# Altium footprint library node.PcbLib: 75 footprints (part 1 of 5)
Each footprint in its own frame and in the unit in brackets; x right, y up, seen from the top. Pads: shape width x height; smd on the part's side, far side on the other; paste and mask are expansions set on the pad; w line width, h text height; cw(c..) or ccw(c..) is an arc to the next point about the centre after c.
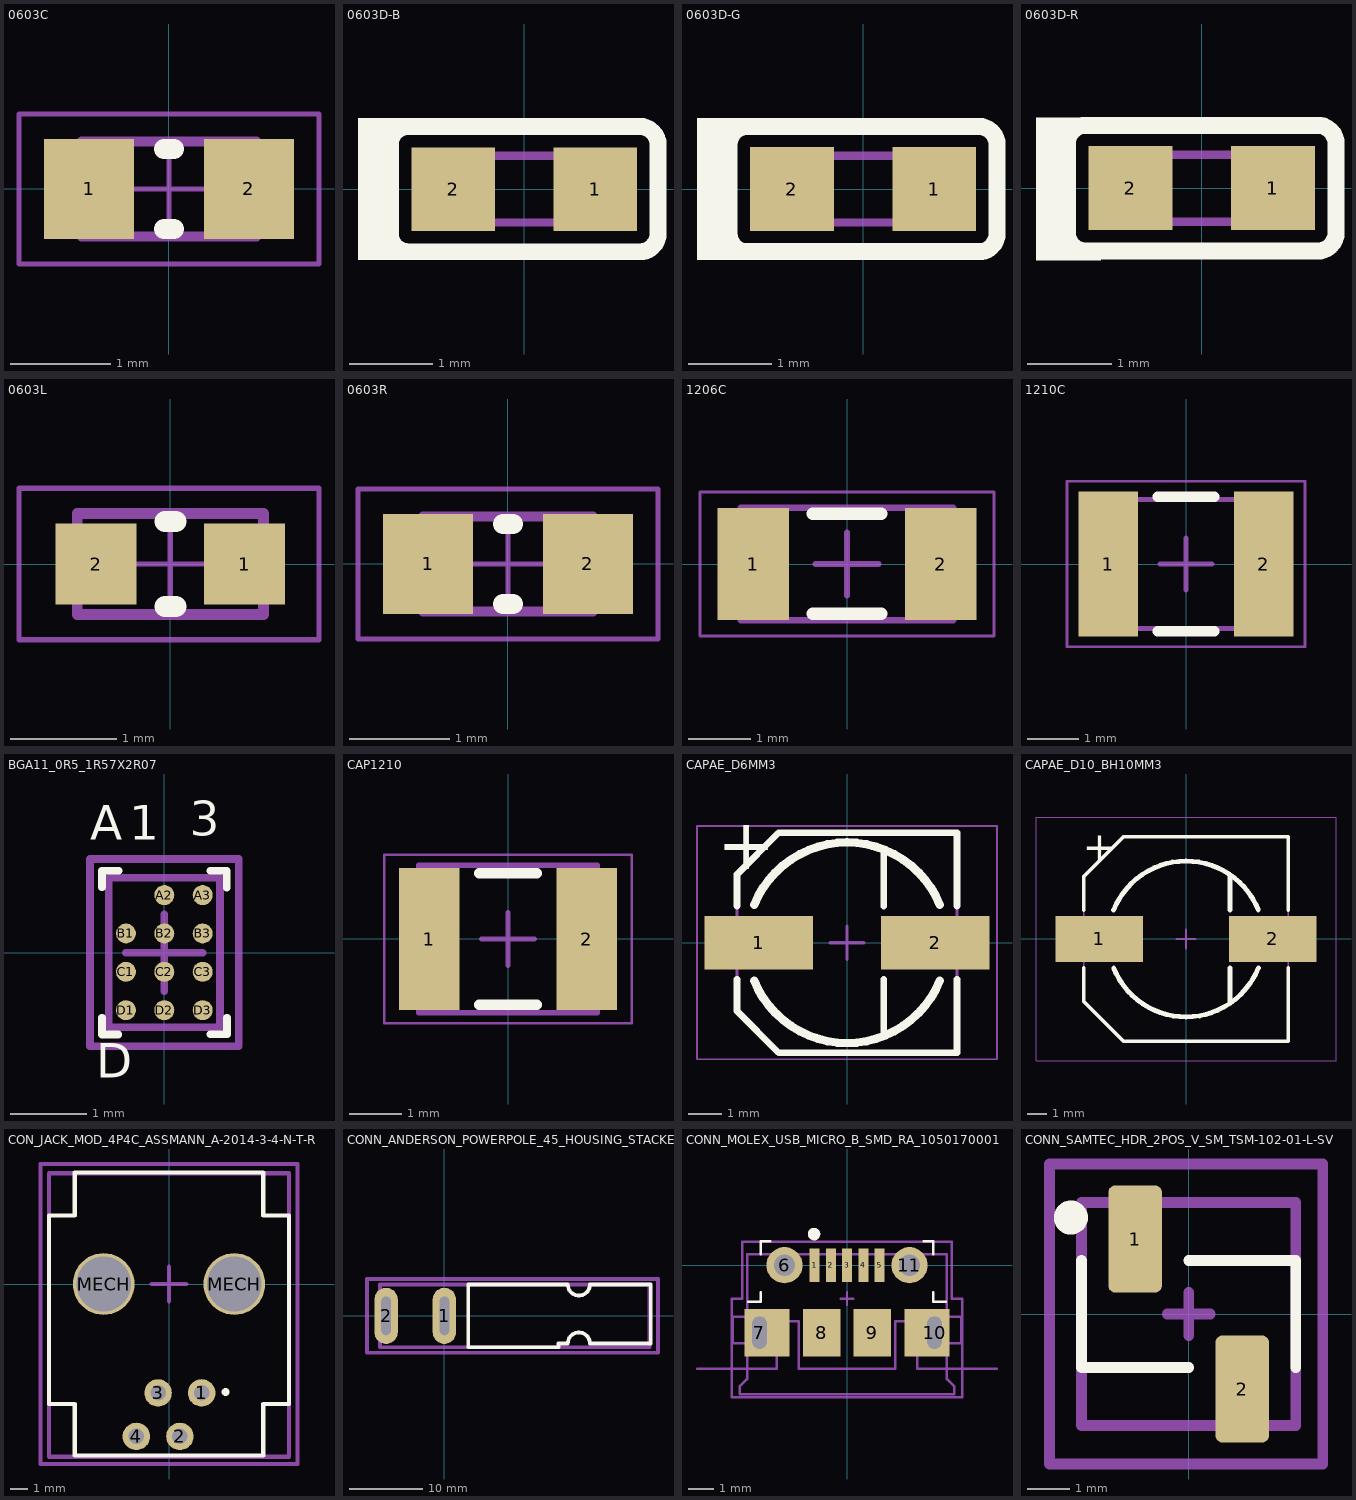
[diagram p0: the footprints below, top view; thin cyan lines are the x and y axes]

## 0603C [mm] "Chip Capacitor, Body 1.6x0.8mm, Height 1.0mm, IPC Medium Density"
height 1
pads (2):
  rect 0.9x1 smd: 1(-0.8,0) 2(0.8,0)
Top Overlay:
  lines w0.2: -0.05,-0.4 0.05,-0.4 ; -0.05,0.4 0.05,0.4
M13 (3D Body):
  lines w0.1: -0.875,-0.475 0.875,-0.475 0.875,0.475 -0.875,0.475 -0.875,-0.475
M15 (Courtyard):
  lines w0.05: -0.475,0 0.475,0 ; 0,-0.475 0,0.475 ; -1.5,-0.75 1.5,-0.75 1.5,0.75 -1.5,0.75 -1.5,-0.75
3D body: height 1, standoff 0, extent 0.525,-0.475 0.875,0.475
3D body: height 1, standoff 0, extent -0.875,-0.475 -0.525,0.475
3D body: height 1, standoff 0, extent -0.525,-0.475 0.525,0.475

## 0603D-B [mm] "LED, SMT, Body 1.6 x 0.8 mm, 0.25mm Thickness"
height 0.25
pads (2):
  rect 1x1 smd paste+0 mask+0: 1(0.85,0) 2(-0.85,0)
Top Overlay:
  rectangle: -1.797,0.667 -1.147,0.852
  rectangle: -1.988,-0.849 -1.531,0.852
  rectangle: -1.797,-0.849 -1.213,-0.684
  lines w0.203: -1.602,-0.533 ccw(c-1.386,-0.533) -1.386,-0.749 1.386,-0.749 ccw(c1.386,-0.533) 1.602,-0.533 1.602,0.533 ccw(c1.386,0.533) 1.386,0.749 -1.386,0.749 ccw(c-1.386,0.533) -1.602,0.533 -1.602,-0.533
Mechanical 7:
  lines w0.1: -0.8,-0.4 -0.8,0.4 0.8,0.4 0.8,-0.4 -0.8,-0.4
3D body: height 0.1, standoff 0, extent -0.8,-0.4 0.8,0.4
3D body: height 0.2, standoff 0.15, extent -0.254,-0.254 0.254,0.254
3D body: height 0.25, standoff 0.1, extent -0.6,-0.4 0.6,0.4

## 0603D-G [mm] "LED, SMT, Body 1.6 x 0.8 mm, 0.25mm Thickness"
height 0.25
pads (2):
  rect 1x1 smd paste+0 mask+0: 1(0.85,0) 2(-0.85,0)
Top Overlay:
  rectangle: -1.794,0.666 -1.144,0.852
  rectangle: -1.985,-0.85 -1.528,0.852
  rectangle: -1.794,-0.85 -1.21,-0.685
  lines w0.203: -1.602,-0.533 ccw(c-1.386,-0.533) -1.386,-0.749 1.386,-0.749 ccw(c1.386,-0.533) 1.602,-0.533 1.602,0.533 ccw(c1.386,0.533) 1.386,0.749 -1.386,0.749 ccw(c-1.386,0.533) -1.602,0.533 -1.602,-0.533
Mechanical 7:
  lines w0.1: -0.8,-0.4 -0.8,0.4 0.8,0.4 0.8,-0.4 -0.8,-0.4
3D body: height 0.1, standoff 0, extent -0.8,-0.4 0.8,0.4
3D body: height 0.2, standoff 0.15, extent -0.254,-0.254 0.254,0.254
3D body: height 0.25, standoff 0.1, extent -0.6,-0.4 0.6,0.4

## 0603D-R [mm] "LED, SMT, Body 1.6 x 0.8 mm, 0.25mm Thickness"
height 0.25
pads (2):
  rect 1x1 smd paste+0 mask+0: 1(0.85,0) 2(-0.85,0)
Top Overlay:
  rectangle: -1.785,-0.861 -1.2,-0.696
  rectangle: -1.975,-0.861 -1.518,0.841
  rectangle: -1.785,0.656 -1.134,0.841
  lines w0.203: -1.602,-0.533 ccw(c-1.386,-0.533) -1.386,-0.749 1.386,-0.749 ccw(c1.386,-0.533) 1.602,-0.533 1.602,0.533 ccw(c1.386,0.533) 1.386,0.749 -1.386,0.749 ccw(c-1.386,0.533) -1.602,0.533 -1.602,-0.533
Mechanical 7:
  lines w0.1: -0.8,-0.4 0.8,-0.4 0.8,0.4 -0.8,0.4 -0.8,-0.4
3D body: height 0.25, standoff 0.1, extent -0.6,-0.4 0.6,0.4
3D body: height 0.2, standoff 0.15, extent -0.254,-0.254 0.254,0.254
3D body: height 0.1, standoff 0, extent -0.8,-0.4 0.8,0.4

## 0603L [mil] "Bead 0603L"
height 39.37
pads (2):
  rect 30x30 smd: 1(27.5,0) 2(-27.5,0)
Top Overlay:
  lines w7.87: -1.97,-15.74 1.97,-15.74 -1.97,-15.75 ; -1.97,15.75 1.97,15.75 -1.97,15.75
M13 (3D Body):
  lines w3.94: -34.45,-18.7 -34.45,18.7 34.45,18.7 34.45,-18.7 -34.45,-18.7
M15 (Courtyard):
  lines w1.97: -18.7,0 18.7,0 ; 0,-18.7 0,18.7 ; -56,-28 55,-28 55,28 -56,28 -56,-28
3D body: height 23.62, standoff 0, extent -20.67,-18.7 20.67,18.7
3D body: height 23.62, standoff 0, extent -34.45,-18.7 -20.67,18.7
3D body: height 23.62, standoff 0, extent 20.67,-18.7 34.45,18.7

## 0603R [mm] "Chip Resistor, Body 1.6x0.8mm, IPC Medium Density"
height 0.6
pads (2):
  rect 0.9x1 smd: 1(-0.8,0) 2(0.8,0)
Top Overlay:
  lines w0.2: -0.05,-0.4 0.05,-0.4 ; -0.05,0.4 0.05,0.4
M13 (3D Body):
  lines w0.1: -0.85,-0.475 0.85,-0.475 0.85,0.475 -0.85,0.475 -0.85,-0.475
M15 (Courtyard):
  lines w0.05: -0.475,0 0.475,0 ; 0,-0.475 0,0.475 ; -1.5,-0.75 1.5,-0.75 1.5,0.75 -1.5,0.75 -1.5,-0.75
3D body: height 0.6, standoff 0, extent -0.849,-0.474 -0.58,0.475
3D body: height 0.6, standoff 0, extent -0.58,-0.474 0.581,0.475
3D body: height 0.6, standoff 0, extent 0.581,-0.474 0.85,0.475

## 1206C [mm] "Chip Capacitor, Body 3.2x1.6mm, Height 1mm, IPC Medium Density"
height 1
pads (2):
  rect 1.15x1.8 smd: 1(-1.5,0) 2(1.5,0)
Top Overlay:
  lines w0.2: -0.55,-0.8 0.55,-0.8 ; -0.55,0.8 0.55,0.8
M13 (3D Body):
  lines w0.1: -1.7,-0.9 1.7,-0.9 1.7,0.9 -1.7,0.9 -1.7,-0.9
M15 (Courtyard):
  lines w0.05: -2.35,-1.15 2.35,-1.15 2.35,1.15 -2.35,1.15 -2.35,-1.15
  lines w0.1: -0.5,0 0.5,0 ; 0,-0.5 0,0.5
3D body: height 1, standoff 0, extent 1.2,-0.9 1.7,0.9
3D body: height 1, standoff 0, extent -1.7,-0.9 -1.2,0.9
3D body: height 1, standoff 0, extent -1.2,-0.9 1.2,0.9

## 1210C [mm] "Chip Capacitor, Body 3.2x1.6mm, Height 1mm, IPC Medium Density"
height 1
pads (2):
  rect 1.15x2.8 smd: 1(-1.5,0) 2(1.5,0)
Top Overlay:
  lines w0.2: -0.55,-1.3 0.55,-1.3 ; -0.55,1.3 0.55,1.3
M13 (3D Body):
  lines w0.1: -1.7,-1.25 1.7,-1.25 1.7,1.25 -1.7,1.25 -1.7,-1.25
M15 (Courtyard):
  lines w0.05: -2.3,-1.6 2.3,-1.6 2.3,1.6 -2.3,1.6 -2.3,-1.6
  lines w0.1: -0.5,0 0.5,0 ; 0,-0.5 0,0.5
3D body: height 1, standoff 0, extent 1.2,-1.25 1.7,1.25
3D body: height 1, standoff 0, extent -1.7,-1.25 -1.2,1.25
3D body: height 1, standoff 0, extent -1.2,-1.25 1.2,1.25

## BGA11_0R5_1R57X2R07 [mm] "2-line IPAD, EMI filter including ESD protection"
height 0.65
pads (11):
  round 0.26 smd: A2(0,0.75) A3(0.5,0.75) B1(-0.5,0.25) B2(0,0.25) B3(0.5,0.25) C1(-0.5,-0.25) C2(0,-0.25) C3(0.5,-0.25) D1(-0.5,-0.75) D2(0,-0.75) D3(0.5,-0.75)
Top Overlay:
  lines w0.1: -0.813,-0.85 -0.813,-1.067 -0.6,-1.067 ; -0.813,0.854 -0.813,1.067 -0.596,1.067 ; 0.6,-1.063 0.817,-1.063 0.817,-0.85 ; 0.6,1.067 0.813,1.067 0.813,0.85
  text "3" at 0.33,1.372 h0.76
  text "1" at -0.459,1.321 h0.76
  text "D" at -0.889,-1.778 h0.76
  text "A" at -0.965,1.321 h0.76
M13 (3D Body):
  lines w0.1: -0.725,-0.975 0.725,-0.975 0.725,0.975 -0.725,0.975 -0.725,-0.975
M15 (Courtyard):
  lines w0.1: -0.5,0 0.5,0 ; 0,-0.5 0,0.5 ; -0.97,-1.22 0.97,-1.22 0.97,1.22 -0.97,1.22 -0.97,-1.22
3D body: height 0.65, standoff 0.12, extent -0.725,-0.975 0.725,0.975

## CAP1210 [mm]
pads (2):
  rect 1.15x2.7 smd: 1(-1.501,-0.001) 2(1.499,-0.001)
Top Overlay:
  lines w0.2: -0.551,-1.251 0.549,-1.251 ; -0.551,1.249 0.549,1.249
M13 (3D Body):
  lines w0.1: -1.701,-1.401 1.699,-1.401 1.699,1.399 -1.701,1.399 -1.701,-1.401
M15 (Courtyard):
  lines w0.05: -2.351,-1.601 2.349,-1.601 2.349,1.599 -2.351,1.599 -2.351,-1.601
  lines w0.1: -0.501,-0.001 0.499,-0.001 ; -0.001,-0.501 -0.001,0.499
3D body: height 1.8, standoff 0, extent 1.199,-1.401 1.699,1.399
3D body: height 1.8, standoff 0, extent -1.701,-1.401 -1.201,1.399
3D body: height 1.8, standoff 0, extent -1.201,-1.401 1.199,1.399

## CAPAE_D6MM3 [mm] "Aluminum Electrolytic Capacitor, Body 6.50x6.50x7.70mm, IPC Medium Density"
height 7.7
pads (2):
  rect 3.25x1.6 smd: 1(-2.65,0) 2(2.65,0)
Top Overlay:
  lines w0.2: -3.3,-1.1 -3.3,-2.05 -2.05,-3.3 3.3,-3.3 3.3,-1.1 ; -3.3,1.1 -3.3,2.05 -2.05,3.3 3.3,3.3 3.3,1.1 ; 1.1,-2.8 1.1,-1.1 ; 1.1,1.1 1.1,2.8
  lines w0.254: -2.786,-1.135 ccw(c0,0) 2.786,-1.135 ; -2.786,1.135 cw(c0,0) 2.786,1.135
  text "+" at -3.9,2.2 h1.52
M13 (3D Body):
  lines w0.1: -3.3,-2.05 -3.3,2.05 -2.05,3.3 3.3,3.3 3.3,-3.3 -2.05,-3.3 -3.3,-2.05
M15 (Courtyard):
  lines w0.05: -4.5,-3.5 4.5,-3.5 4.5,3.5 -4.5,3.5 -4.5,-3.5
  lines w0.1: -0.5,0 0.5,0 ; 0,-0.5 0,0.5
3D body: height 7.7, standoff 0, extent -3.25,-3.25 3.25,3.243
3D body: height 2.57, standoff 0, extent -3.3,-3.3 3.3,3.3

## CAPAE_D10_BH10MM3 [mm] "Aluminum Electrolytic Capacitor, Body 10.30x10.30x10.30mm, IPC Low Density"
height 10.3
pads (2):
  rect 4.5x2.35 smd: 1(-4.45,0) 2(4.45,0)
Top Overlay:
  lines w0.2: -5.25,-1.475 -5.25,-3.213 -3.213,-5.25 5.25,-5.25 5.25,-1.475 ; -5.25,1.475 -5.25,3.212 -3.213,5.25 5.25,5.25 5.25,1.475
  lines w0.254: -3.714,1.486 cw(c0,0) 3.709,1.498 ; -3.709,-1.498 ccw(c0,0) 3.714,-1.486 ; 2.25,-3.25 2.25,-1.475 ; 2.25,1.5 2.25,3.212
  text "+" at -5.3,4 h1.52
M13 (3D Body):
  lines w0.1: -5.25,-3.213 -3.213,-5.25 5.25,-5.25 5.25,5.25 -3.213,5.25 -5.25,3.212 -5.25,-3.213
M15 (Courtyard):
  lines w0.05: -7.7,-6.25 -7.7,6.25 7.7,6.25 7.7,-6.25 -7.7,-6.25
  lines w0.1: -0.5,0 0.5,0 ; 0,-0.5 0,0.5
3D body: height 3.44, standoff 0, extent -5.25,-5.25 5.25,5.25
3D body: height 10.3, standoff 0, extent -5,-5 5,5

## CON_JACK_MOD_4P4C_ASSMANN_A-2014-3-4-N-T-R [mm]
pads (6):
  round 1.6 hole 0.9: 1(1.905,-6.35) 2(0.635,-8.89) 3(-0.635,-6.35) 4(-1.905,-8.89)
  round 3.6 hole 3.2: MECH(-3.81,0) MECH(3.81,0)
Top Overlay:
  circle w0.254: c3.3,-6.3 r0.1
  lines w0.254: -7,-7 -7,4 -5.5,4 -5.5,6.5 5.5,6.5 5.5,4 7,4 7,-7 5.5,-7 5.5,-10 -5.5,-10 -5.5,-7 -7,-7
M13 (3D Body):
  lines w0.254: -7,-10.07 7,-10.07 7,6.47 -7,6.47 -7,-10.07
M15 (Courtyard):
  lines w0.254: -1,0 1,0 ; 0,-1 0,1 ; -7.5,-10.5 7.5,-10.5 7.5,7 -7.5,7 -7.5,-10.5
3D body "modular_jack_a-20140.stp": height 16.45, standoff -3.35, extent -7,-10.07 7,6.47

## CONN_ANDERSON_POWERPOLE_45_HOUSING_STACKED_RATH [mil]
pads (2):
  oval 125x300 hole 50 slot 206 at 90 deg: 1(0,0) 2(-312,0)
Top Overlay:
  lines w20: 127.95,-167.32 610.24,-167.32 610.24,-147.64 659.45,-147.64 cw(c718.5,-147.64) 777.56,-147.64 1102.36,-147.64 1102.36,167.32 777.56,167.32 cw(c718.5,167.32) 659.45,167.32 127.95,167.32 127.95,-147.64 127.95,-167.32
M13 (3D Body):
  lines w20: -344.49,-167.32 1096.46,-167.32 1096.46,167.32 -344.49,167.32 -344.49,-167.32
M15 (Courtyard):
  lines w20: -39.37,0 39.37,0 ; 0,-39.37 0,39.37 ; -413.39,-196.85 1141.73,-196.85 1141.73,196.85 -413.39,196.85 -413.39,-196.85
3D body "powerpole-stacked-redblack.STEP": height 679.13, standoff 29.53, extent 127.95,-167.32 1096.46,167.32

## CONN_MOLEX_USB_MICRO_B_SMD_RA_1050170001 [mm] "USB Micro-B Connector"
height 2.667
pads (11):
  rect 0.4x1.35 smd: 1(-1.3,0) 2(-0.65,0) 3(0,0) 4(0.65,0) 5(1.3,0)
  round 1.45 hole 0.85: 6(-2.5,0) 11(2.5,0)
  rect 1.8x1.9 hole 0.6 slot 1.3 at 90 deg copper offset 0.3,0: 7(-3.5,-2.7)
  rect 1.5x1.9 smd: 8(-1,-2.7) 9(1,-2.7)
  rect 1.8x1.9 hole 0.6 slot 1.3 at 90 deg copper offset -0.3,0: 10(3.5,-2.7)
Top Overlay:
  circle w0.25: c-1.319,1.245 r0.125
  lines w0.1: -3.953,-1.465 -3.445,-1.465 -3.445,-1.084 ; -3.445,0.44 -3.445,0.948 -3.064,0.948 ; 3.064,0.948 3.445,0.948 3.445,0.44 ; 3.445,-1.084 3.445,-1.465 3.953,-1.465
Mechanical 1:
  lines w0.1: -6,-4.137 -2.82,-4.137 -2.82,-2.238 -1.92,-2.238 -1.92,-4.137 0,-4.137 1.92,-4.137 1.92,-2.238 2.82,-2.238 2.82,-4.137 6,-4.137
  text "Board edge" at 5.588,-4.005 h0.2
M13 (3D Body):
  lines w0.1: -4,0.442 4,0.442 ; -4,0.442 4,0.442 ; -4,0.442 -4,-2.058 -4.572,-2.058 -4.572,-3.116 -4,-3.116 -4,-4.558 -4.3,-4.858 -4.3,-5.158 4.3,-5.158 4.3,-4.858 4,-4.558 4,-3.116 4.572,-3.116 4.572,-2.058 4,-2.058 4,0.442
M15 (Courtyard):
  lines w0.1: -4.2,0.937 4.2,0.937 ; -4.2,0.94 -4.2,-1.338 -4.6,-1.338 -4.6,-4.137 -4.6,-5.275 4.6,-5.275 4.6,-4.137 4.6,-1.338 4.2,-1.338 4.2,0.94 ; -0.254,-1.338 0.254,-1.338 ; 0,-1.592 0,-1.084
3D body "1050170001.stp": height 2.58, standoff -0.72, extent -4.1,-5.207 4.1,0.193

## CONN_SAMTEC_HDR_2POS_V_SM_TSM-102-01-L-SV [mil]
pads (2):
  rrect25% 50x100 smd: 1(-50,70) 2(50,-70)
Top Overlay:
  circle w20: c-110,90 r5.91
  lines w10: -100,50 -100,-50 0,-50 ; 0,50 100,50 100,-50
M13 (3D Body):
  lines w10: -99.99,-103.99 100.01,-103.99 100.01,104.01 -99.99,104.01 -99.99,-103.99
M15 (Courtyard):
  lines w10: -20,0 20,0 ; 0,-20 0,20 ; -130,-140 125,-140 125,140 -130,140 -130,-140
3D body "TSM-102-01-L-SV.stp": height 381.18, standoff 1.18, extent -99.99,-103.99 100.01,104.01